# Altium footprint library PCB_Library.PcbLib: 18 footprints (part 1 of 2)
Each footprint in its own frame and in the unit in brackets; x right, y up, seen from the top. Pads: shape width x height; smd on the part's side, far side on the other; paste and mask are expansions set on the pad; w line width, h text height; cw(c..) or ccw(c..) is an arc to the next point about the centre after c.
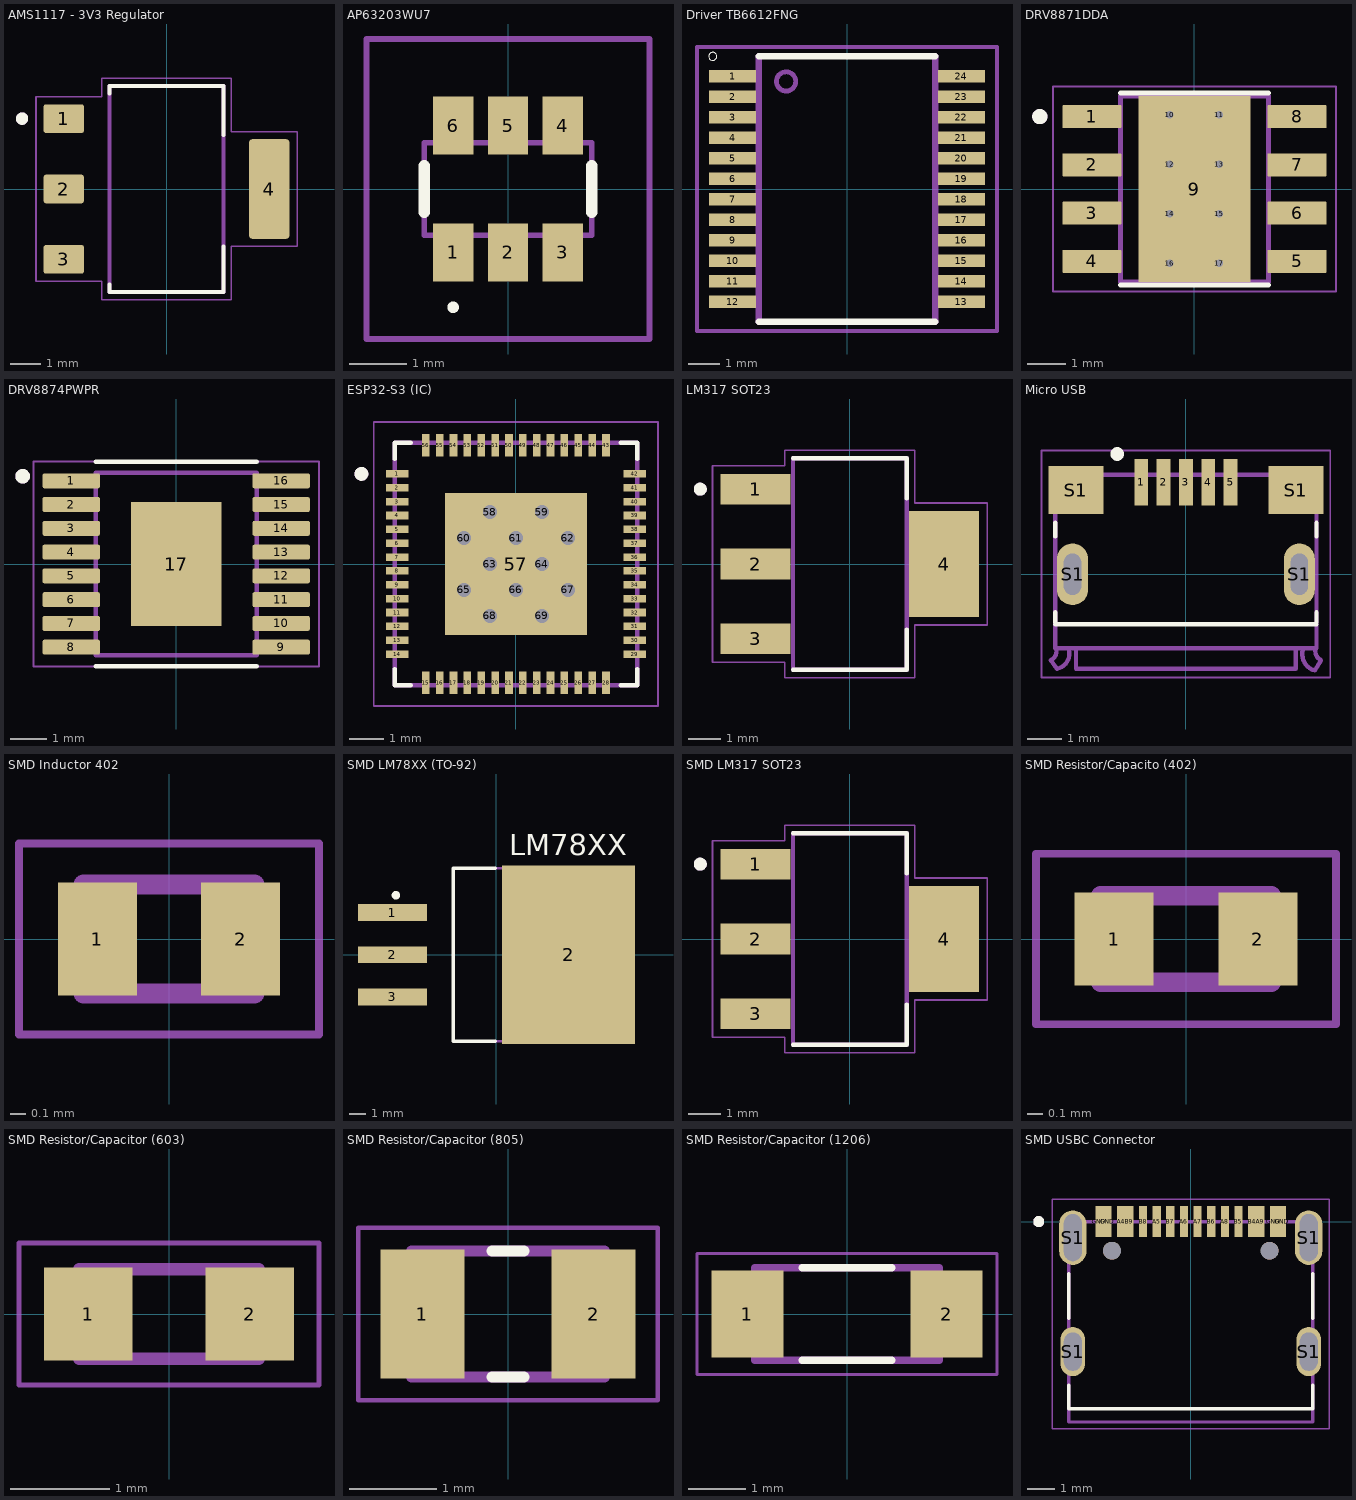
[diagram p0: the footprints below, top view; thin cyan lines are the x and y axes]

## AMS1117 - 3V3 Regulator [mm] "1A LOW DROPOUT VOLTAGE REGULATOR SOT-223"
height 1.8
pads (4):
  rrect15% 1.31x0.93 smd: 1(-3.345,2.29) 2(-3.345,0) 3(-3.345,-2.29)
  rrect15% 1.31x3.24 smd: 4(3.345,0)
Top Overlay:
  circle w0.2: c-4.703,2.29 r0.1
  lines w0.127: -1.86,-3.11 -1.86,-3.36 1.86,-3.36 1.86,-1.87 ; -1.86,3.1 -1.86,3.36 1.86,3.36 1.86,1.76
Mechanical 13:
  circle w0.2: c-4.703,2.29 r0.1
  lines w0.127: -1.86,-3.36 -1.86,3.36 1.86,3.36 1.86,-3.36 -1.86,-3.36
Mechanical 15:
  lines w0.05: -4.25,-3.01 -2.11,-3.01 -2.11,-3.61 2.11,-3.61 2.11,-1.87 4.25,-1.87 4.25,1.87 2.11,1.87 2.11,3.61 -2.11,3.61 -2.11,3.01 -4.25,3.01 -4.25,-3.01
3D body "step_temp.STEP": height 1.8, standoff 0, extent -3.499,-3.251 3.499,3.251

## AP63203WU7 [mm]
pads (6):
  rect 0.7x1 smd: 1(-0.95,-1.099) 2(0,-1.099) 3(0.95,-1.099) 4(0.95,1.099) 5(0,1.099) 6(-0.95,1.099)
Top Overlay:
  lines w0.1: -0.95,-2.1 cw(c-0.95,-2.05) -0.95,-2 cw(c-0.95,-2.05) -0.95,-2.1
  lines w0.2: -1.45,-0.4 -1.45,0.4 ; 1.45,-0.4 1.45,0.4
Mechanical 15:
  lines w0.1: -1.45,-0.8 1.45,-0.8 1.45,0.8 -1.45,0.8 -1.45,-0.8
Mechanical 20:
  lines w0.1: -2.45,-2.599 2.45,-2.599 2.45,2.599 -2.45,2.599 -2.45,-2.599
3D body "AP63203WU-7--3DModel-STEP-510211.STEP": height 1, standoff 0, extent -1.45,-1.45 1.45,1.45

## Driver TB6612FNG [mm]
pads (24):
  rect 1.5x0.4 smd: 1(-3.625,3.575) 2(-3.625,2.925) 3(-3.625,2.275) 4(-3.625,1.625) 5(-3.625,0.975) 6(-3.625,0.325) 7(-3.625,-0.325) 8(-3.625,-0.975) 9(-3.625,-1.625) 10(-3.625,-2.275) 11(-3.625,-2.925) 12(-3.625,-3.575) 13(3.625,-3.575) 14(3.625,-2.925) 15(3.625,-2.275) 16(3.625,-1.625) 17(3.625,-0.975) 18(3.625,-0.325) 19(3.625,0.325) 20(3.625,0.975) 21(3.625,1.625) 22(3.625,2.275) 23(3.625,2.925) 24(3.625,3.575)
Top Overlay:
  circle w0: c-4.25,4.2 r0.127
  lines w0.203: -2.8,-4.2 2.8,-4.2 ; -2.8,4.2 2.8,4.2
Mechanical 13:
  circle w0.152: c-1.928,3.406 r0.305
  region: -2.8,3.435 -3.811,3.435 -3.811,3.725 -2.8,3.725
  region: -2.8,2.78 -3.807,2.78 -3.807,3.075 -2.8,3.075
  region: -2.8,2.132 -3.812,2.132 -3.812,2.425 -2.8,2.425
  region: -2.8,1.478 -3.807,1.478 -3.807,1.775 -2.8,1.775
  region: -2.8,0.827 -3.808,0.827 -3.808,1.125 -2.8,1.125
  region: -2.8,0.175 -3.807,0.175 -3.807,0.475 -2.8,0.475
  region: -2.8,-0.476 -3.812,-0.476 -3.812,-0.175 -2.8,-0.175
  region: -2.8,-1.127 -3.808,-1.127 -3.808,-0.825 -2.8,-0.825
  region: -2.8,-1.78 -3.81,-1.78 -3.81,-1.475 -2.8,-1.475
  region: -2.8,-2.432 -3.81,-2.432 -3.81,-2.125 -2.8,-2.125
  region: -2.8,-3.081 -3.808,-3.081 -3.808,-2.775 -2.8,-2.775
  region: -2.8,-3.733 -3.808,-3.733 -3.808,-3.425 -2.8,-3.425
  region: 3.8,0.175 2.807,0.175 2.807,0.475 3.8,0.475
  region: 3.8,0.827 2.807,0.827 2.807,1.125 3.8,1.125
  region: 3.8,2.126 2.802,2.126 2.802,2.425 3.8,2.425
  region: 3.8,2.781 2.806,2.781 2.806,3.075 3.8,3.075
  region: 3.8,3.431 2.805,3.431 2.805,3.725 3.8,3.725
  region: 3.8,-3.731 2.805,-3.731 2.805,-3.425 3.8,-3.425
  region: 3.8,-3.084 2.808,-3.084 2.808,-2.775 3.8,-2.775
  region: 3.8,-1.777 2.803,-1.777 2.803,-1.475 3.8,-1.475
  region: 3.8,-1.128 2.808,-1.128 2.808,-0.825 3.8,-0.825
  region: 3.8,-0.476 2.806,-0.476 2.806,-0.175 3.8,-0.175
  region: 3.8,1.478 2.805,1.478 2.805,1.775 3.8,1.775
  region: 3.8,-2.428 2.804,-2.428 2.804,-2.125 3.8,-2.125
  lines w0.203: -2.8,-4.2 -2.8,4.2 ; 2.8,-4.2 2.8,4.2
Mechanical 15:
  lines w0.127: -4.75,-4.5 4.75,-4.5 4.75,4.5 -4.75,4.5 -4.75,-4.5
3D body "step_temp.STEP": height 1.6, standoff 0, extent -3.8,-4.15 3.8,4.15

## DRV8871DDA [mm]
pads (17):
  rrect5% 1.55x0.6 smd mask+0: 1(-2.7,1.905) 2(-2.7,0.635) 3(-2.7,-0.635) 4(-2.7,-1.905) 5(2.7,-1.905) 6(2.7,-0.635) 7(2.7,0.635) 8(2.7,1.905)
  rect 2.95x4.9 smd paste-3 mask+0: 9(0,0)
  round 0.3 hole 0.2: 10(-0.65,1.95) 11(0.65,1.95) 12(-0.65,0.65) 13(0.65,0.65) 14(-0.65,-0.65) 15(0.65,-0.65) 16(-0.65,-1.95) 17(0.65,-1.95)
Top Overlay:
  circle w0.2: c-4.07,1.905 r0.1
  lines w0.127: -1.95,-2.525 1.95,-2.525 ; -1.95,2.525 1.95,2.525
Top Paste:
  region: 1.355,-1.7 -1.355,-1.7 -1.355,1.7 1.355,1.7
Top Solder:
  drawing of 9 lines, arcs and shapes, not listed
Mechanical 13:
  circle w0.2: c-4.07,1.905 r0.1
  lines w0.127: -1.95,-2.45 1.95,-2.45 1.95,2.45 -1.95,2.45 -1.95,-2.45
Mechanical 15:
  lines w0.05: -3.725,-2.7 3.725,-2.7 3.725,2.7 -3.725,2.7 -3.725,-2.7
3D body "DRV8871DDA.STEP": height 1.7, standoff 0, extent -3,-2.45 3,2.45

## DRV8874PWPR [mm]
pads (17):
  rrect25% 1.57x0.41 smd: 1(-2.87,2.275) 2(-2.87,1.625) 3(-2.87,0.975) 4(-2.87,0.325) 5(-2.87,-0.325) 6(-2.87,-0.975) 7(-2.87,-1.625) 8(-2.87,-2.275) 9(2.87,-2.275) 10(2.87,-1.625) 11(2.87,-0.975) 12(2.87,-0.325) 13(2.87,0.325) 14(2.87,0.975) 15(2.87,1.625) 16(2.87,2.275)
  rect 2.48x3.4 smd paste-3: 17(0,0)
Top Overlay:
  circle w0.2: c-4.2,2.4 r0.1
  lines w0.127: -2.2,-2.8 2.2,-2.8 ; -2.2,2.8 2.2,2.8
Top Paste:
  region: 0.8,-1.075 -0.8,-1.075 -0.8,1.075 0.8,1.075
Mechanical 13:
  circle w0.2: c-4.2,2.4 r0.1
  lines w0.127: -2.2,-2.5 2.2,-2.5 2.2,2.5 -2.2,2.5 -2.2,-2.5
Mechanical 15:
  lines w0.05: -3.905,-2.8 3.905,-2.8 3.905,2.8 -3.905,2.8 -3.905,-2.8
3D body "step_temp.STEP": height 1.2, standoff 0, extent -3.2,-2.5 3.2,2.5

## ESP32-S3 (IC) [mm]
height 0.9
pads (69):
  rect 0.65x0.22 smd mask+0.05: 1(-3.425,2.6) 2(-3.425,2.2) 3(-3.425,1.8) 4(-3.425,1.4) 5(-3.425,1) 6(-3.425,0.6) 7(-3.425,0.2) 8(-3.425,-0.2) 9(-3.425,-0.6) 10(-3.425,-1) 11(-3.425,-1.4) 12(-3.425,-1.8) 13(-3.425,-2.2) 14(-3.425,-2.6) 29(3.425,-2.6) 30(3.425,-2.2) 31(3.425,-1.8) 32(3.425,-1.4) 33(3.425,-1) 34(3.425,-0.6) 35(3.425,-0.2) 36(3.425,0.2) 37(3.425,0.6) 38(3.425,1) 39(3.425,1.4) 40(3.425,1.8) 41(3.425,2.2) 42(3.425,2.6)
  rect 0.22x0.65 smd mask+0.05: 15(-2.6,-3.425) 16(-2.2,-3.425) 17(-1.8,-3.425) 18(-1.4,-3.425) 19(-1,-3.425) 20(-0.6,-3.425) 21(-0.2,-3.425) 22(0.2,-3.425) 23(0.6,-3.425) 24(1,-3.425) 25(1.4,-3.425) 26(1.8,-3.425) 27(2.2,-3.425) 28(2.6,-3.425) 43(2.6,3.425) 44(2.2,3.425) 45(1.8,3.425) 46(1.4,3.425) 47(1,3.425) 48(0.6,3.425) 49(0.2,3.425) 50(-0.2,3.425) 51(-0.6,3.425) 52(-1,3.425) 53(-1.4,3.425) 54(-1.8,3.425) 55(-2.2,3.425) 56(-2.6,3.425)
  rect 4.1x4.1 smd paste-1.55: 57(0,0)
  round 0.5 hole 0.4 mask+0: 58(-0.75,1.5) 59(0.75,1.5) 60(-1.5,0.75) 61(0,0.75) 62(1.5,0.75) 63(-0.75,0) 64(0.75,0) 65(-1.5,-0.75) 66(0,-0.75) 67(1.5,-0.75) 68(-0.75,-1.5) 69(0.75,-1.5)
Top Overlay:
  circle w0.2: c-4.455,2.6 r0.1
  lines w0.127: -3.5,-3.03 -3.5,-3.5 -3.03,-3.5 ; -3.5,3.03 -3.5,3.5 -3.03,3.5 ; 3.03,-3.5 3.5,-3.5 3.5,-3.03 ; 3.03,3.5 3.5,3.5 3.5,3.03
Top Paste:
  region: -1,1 -2,1 -2,2 -1,2
  region: -1,-0.5 -2,-0.5 -2,0.5 -1,0.5
  region: -1,-2 -2,-2 -2,-1 -1,-1
  region: 0.5,-2 -0.5,-2 -0.5,-1 0.5,-1
  region: 2,-2 1,-2 1,-1 2,-1
  region: 2,-0.5 1,-0.5 1,0.5 2,0.5
  region: 2,1 1,1 1,2 2,2
  region: 0.5,1 -0.5,1 -0.5,2 0.5,2
Mechanical 13:
  circle w0.2: c-4.455,2.6 r0.1
  lines w0.127: -3.5,-3.5 -3.5,3.5 3.5,3.5 3.5,-3.5 -3.5,-3.5
Mechanical 15:
  lines w0.05: -4.1,-4.1 -4.1,4.1 4.1,4.1 4.1,-4.1 -4.1,-4.1
3D body "step_temp.STEP": height 0.9, standoff 0, extent -3.5,-3.5 3.5,3.5

## LM317 SOT23 [mm]
pads (4):
  rect 2.15x0.95 smd: 1(-2.9,2.3) 2(-2.9,0) 3(-2.9,-2.3)
  rect 2.15x3.25 smd: 4(2.9,0)
Top Overlay:
  circle w0.2: c-4.6,2.3 r0.1
  lines w0.127: -1.75,-3.25 1.75,-3.25 1.75,-2.01 ; -1.75,3.25 1.75,3.25 1.75,2.01
Mechanical 13:
  circle w0.2: c-4.6,2.3 r0.1
  lines w0.127: -1.75,-3.25 -1.75,3.25 1.75,3.25 1.75,-3.25 -1.75,-3.25
Mechanical 15:
  lines w0.05: -4.225,-3.025 -4.225,3.025 -2,3.025 -2,3.5 2,3.5 2,1.875 4.225,1.875 4.225,-1.875 2,-1.875 2,-3.5 -2,-3.5 -2,-3.025 -4.225,-3.025
3D body "step_temp.STEP": height 1.8, standoff 0, extent -3.499,-3.25 3.499,3.25

## Micro USB [mm]
pads (11):
  rect 0.4x1.35 smd: 1(-1.3,2.675) 2(-0.65,2.675) 3(0,2.675) 4(0.65,2.675) 5(1.3,2.675)
  oval 0.9x1.8 hole 0.5 slot 1.2 at 90 deg: S1(-3.3,0) S1(3.3,0)
  rect 1.6x1.4 smd: S1(-3.2,2.45) S1(3.2,2.45)
  round 0.5 hole 0.5 unplated: ""(-3.3,0) ""(3.3,0)
Top Overlay:
  circle w0.2: c-2,3.5 r0.1
  lines w0.127: -3.8,-1.45 3.8,-1.45 ; -3.8,-1.4 -3.8,-1.1 ; -3.8,1.1 -3.8,1.5 ; 3.8,-1.4 3.8,-1.1 ; 3.8,1.1 3.8,1.5
Top Designator:
  text ".Designator" at -7.554,-4.698 h1.52
Mechanical 13:
  lines w0.127: -3.93,-2.5 -3.75,-2.75 ; -3.93,-2.5 ccw(c-4.065,-2.235) -3.8,-2.1 ; -3.746,-2.749 ccw(c-3.85,-2.3) -3.401,-2.196 ; -3.2,-2.2 -3.2,-2.75 3.2,-2.75 3.2,-2.2 ; 3.401,-2.198 ccw(c3.875,-2.325) 3.748,-2.799 ; 3.75,-2.8 3.93,-2.5 ; 3.8,-2.1 ccw(c4.065,-2.235) 3.93,-2.5 ; -3.8,-2.1 -3.8,-2.15 3.8,-2.15 3.8,-1.45 3.8,2.9 -3.8,2.9 -3.8,-2.1
Mechanical 15:
  lines w0.05: -4.2,-3 -4.2,3.6 4.2,3.6 4.2,-3 -4.2,-3
3D body "10118193-0001LF--3DModel-STEP-533217.STEP": height 3.18, standoff -0.43, extent -3.928,-2.8 3.928,2.861

## SMD Inductor 402 [mm]
pads (2):
  rect 0.51x0.73 smd: 1(-0.46,0) 2(0.46,0)
Mechanical 13:
  lines w0.127: -0.55,-0.35 -0.55,0.35 0.55,0.35 0.55,-0.35 -0.55,-0.35
Mechanical 15:
  lines w0.05: -0.965,-0.615 -0.965,0.615 0.965,0.615 0.965,-0.615 -0.965,-0.615
3D body "LQW15AN47NG8ZD.STEP": height 0.6, standoff 0, extent -0.5,-0.3 0.5,0.3

## SMD LM78XX (TO-92) [mm]
pads (4):
  rect 4.15x1 smd: 1(-6.25,2.54) 2(-6.25,0) 3(-6.25,-2.54)
  rect 8x10.75 smd: 2(4.35,0)
Top Overlay:
  lines w0.203: -0.051,-5.207 -2.591,-5.207 -2.591,5.207 -0.051,5.207
  lines w0.254: -6.172,3.581 ccw(c-6.045,3.581) -5.918,3.581 ccw(c-6.045,3.581) -6.172,3.581
  text "LM78XX" at 0.762,6 h1.27
Mechanical 13:
  lines w0.152: -2.591,-5.207 6.299,-5.207 6.299,5.207 -2.591,5.207 -2.591,-5.207
  text ".Designator" at -1.524,-1.143 h1.27
3D body "LM7805S.STEP": height 4.83, standoff -0.25, extent -7.62,-5.08 7.62,5.08

## SMD LM317 SOT23 [mm]
pads (4):
  rect 2.15x0.95 smd: 1(-2.9,2.3) 2(-2.9,0) 3(-2.9,-2.3)
  rect 2.15x3.25 smd: 4(2.9,0)
Top Overlay:
  circle w0.2: c-4.6,2.3 r0.1
  lines w0.127: -1.75,-3.25 1.75,-3.25 1.75,-2.01 ; -1.75,3.25 1.75,3.25 1.75,2.01
Mechanical 13:
  circle w0.2: c-4.6,2.3 r0.1
  lines w0.127: -1.75,-3.25 1.75,-3.25 1.75,3.25 -1.75,3.25 -1.75,-3.25
Mechanical 15:
  lines w0.05: -4.225,-3.025 -2,-3.025 -2,-3.5 2,-3.5 2,-1.875 4.225,-1.875 4.225,1.875 2,1.875 2,3.5 -2,3.5 -2,3.025 -4.225,3.025 -4.225,-3.025
3D body "step_temp.STEP": height 1.8, standoff 0, extent -3.499,-3.25 3.499,3.25

## SMD Resistor/Capacito (402) [mm]
pads (2):
  rect 0.51x0.6 smd: 1(-0.465,0) 2(0.465,0)
Mechanical 13:
  lines w0.127: -0.55,-0.28 0.55,-0.28 0.55,0.28 -0.55,0.28 -0.55,-0.28
Mechanical 15:
  lines w0.05: -0.969,-0.55 -0.969,0.55 0.969,0.55 0.969,-0.55 -0.969,-0.55
3D body "RN731ETTP50R0F50.STEP": height 0.4, standoff 0, extent -0.5,-0.25 0.5,0.25

## SMD Resistor/Capacitor (603) [mm]
pads (2):
  rect 0.89x0.93 smd: 1(-0.814,0) 2(0.814,0)
Mechanical 13:
  lines w0.127: -0.9,-0.45 0.9,-0.45 0.9,0.45 -0.9,0.45 -0.9,-0.45
Mechanical 15:
  lines w0.05: -1.508,-0.715 1.508,-0.715 1.508,0.715 -1.508,0.715 -1.508,-0.715
3D body "RK73H1JTTD2R00F.STEP": height 0.55, standoff 0, extent -0.8,-0.4 0.8,0.4

## SMD Resistor/Capacitor (805) [mm]
pads (2):
  rect 0.96x1.47 smd: 1(-0.978,0) 2(0.978,0)
Top Overlay:
  lines w0.127: -0.18,-0.72 0.18,-0.72 ; -0.18,0.72 0.18,0.72
Mechanical 13:
  lines w0.127: -1.1,-0.72 1.1,-0.72 1.1,0.72 -1.1,0.72 -1.1,-0.72
Mechanical 15:
  lines w0.05: -1.708,-0.983 1.708,-0.983 1.708,0.983 -1.708,0.983 -1.708,-0.983
3D body "RN732ATTD5000B25.STEP": height 0.6, standoff 0, extent -1,-0.625 1,0.625

## SMD Resistor/Capacitor (1206) [mm]
height 0.6
pads (2):
  rect 1.25x1.5 smd: 1(-1.725,0) 2(1.725,0)
Top Overlay:
  lines w0.127: -0.78,-0.8 0.78,-0.8 ; -0.78,0.8 0.78,0.8
Mechanical 13:
  lines w0.127: -1.6,-0.8 -1.6,0.8 1.6,0.8 1.6,-0.8 -1.6,-0.8
Mechanical 15:
  lines w0.05: -2.6,-1.05 -2.6,1.05 2.6,1.05 2.6,-1.05 -2.6,-1.05
3D body "step_temp.STEP": height 0.6, standoff 0, extent -1.6,-0.8 1.6,0.8

## SMD USBC Connector [mm]
height 3.26
pads (22):
  rect 0.3x1.14 smd: A4(-2.55,0) A5(-1.25,0) A6(-0.25,0) A7(0.25,0) A8(1.25,0) A9(2.55,0) B4(2.25,0) B5(1.75,0) B6(0.75,0) B7(-0.75,0) B8(-1.75,0) B9(-2.25,0) GND(-3.35,0) GND(-3.05,0) GND(3.05,0) GND(3.35,0)
  oval 0.9x1.8 hole 0.65 slot 1.4 at 90 deg: S1(-4.325,-4.77) S1(4.325,-4.77)
  oval 1x2 hole 0.65 slot 1.72 at 90 deg: S1(-4.325,-0.59) S1(4.325,-0.59)
  round 0.65 hole 0.65 unplated: ""(-2.89,-1.07) ""(2.89,-1.07)
Top Overlay:
  circle w0.2: c-5.575,0 r0.1
  lines w0.127: -4.47,-6 -4.47,-6.86 4.47,-6.86 4.47,-6 ; -4.47,-3.55 -4.47,-1.91 ; 4.47,-3.55 4.47,-1.91
Mechanical 13:
  circle w0.2: c-5.575,0 r0.1
  lines w0.127: -4.47,-7.35 4.47,-7.35 4.47,0 -4.47,0 -4.47,-7.35
Mechanical 15:
  lines w0.05: -5.075,-7.6 5.075,-7.6 5.075,0.82 -5.075,0.82 -5.075,-7.6
3D body "step_temp.STEP": height 3.26, standoff -1, extent -4.473,-7.37 4.467,0.38